# EAGLE library part LPC313* (library parts)
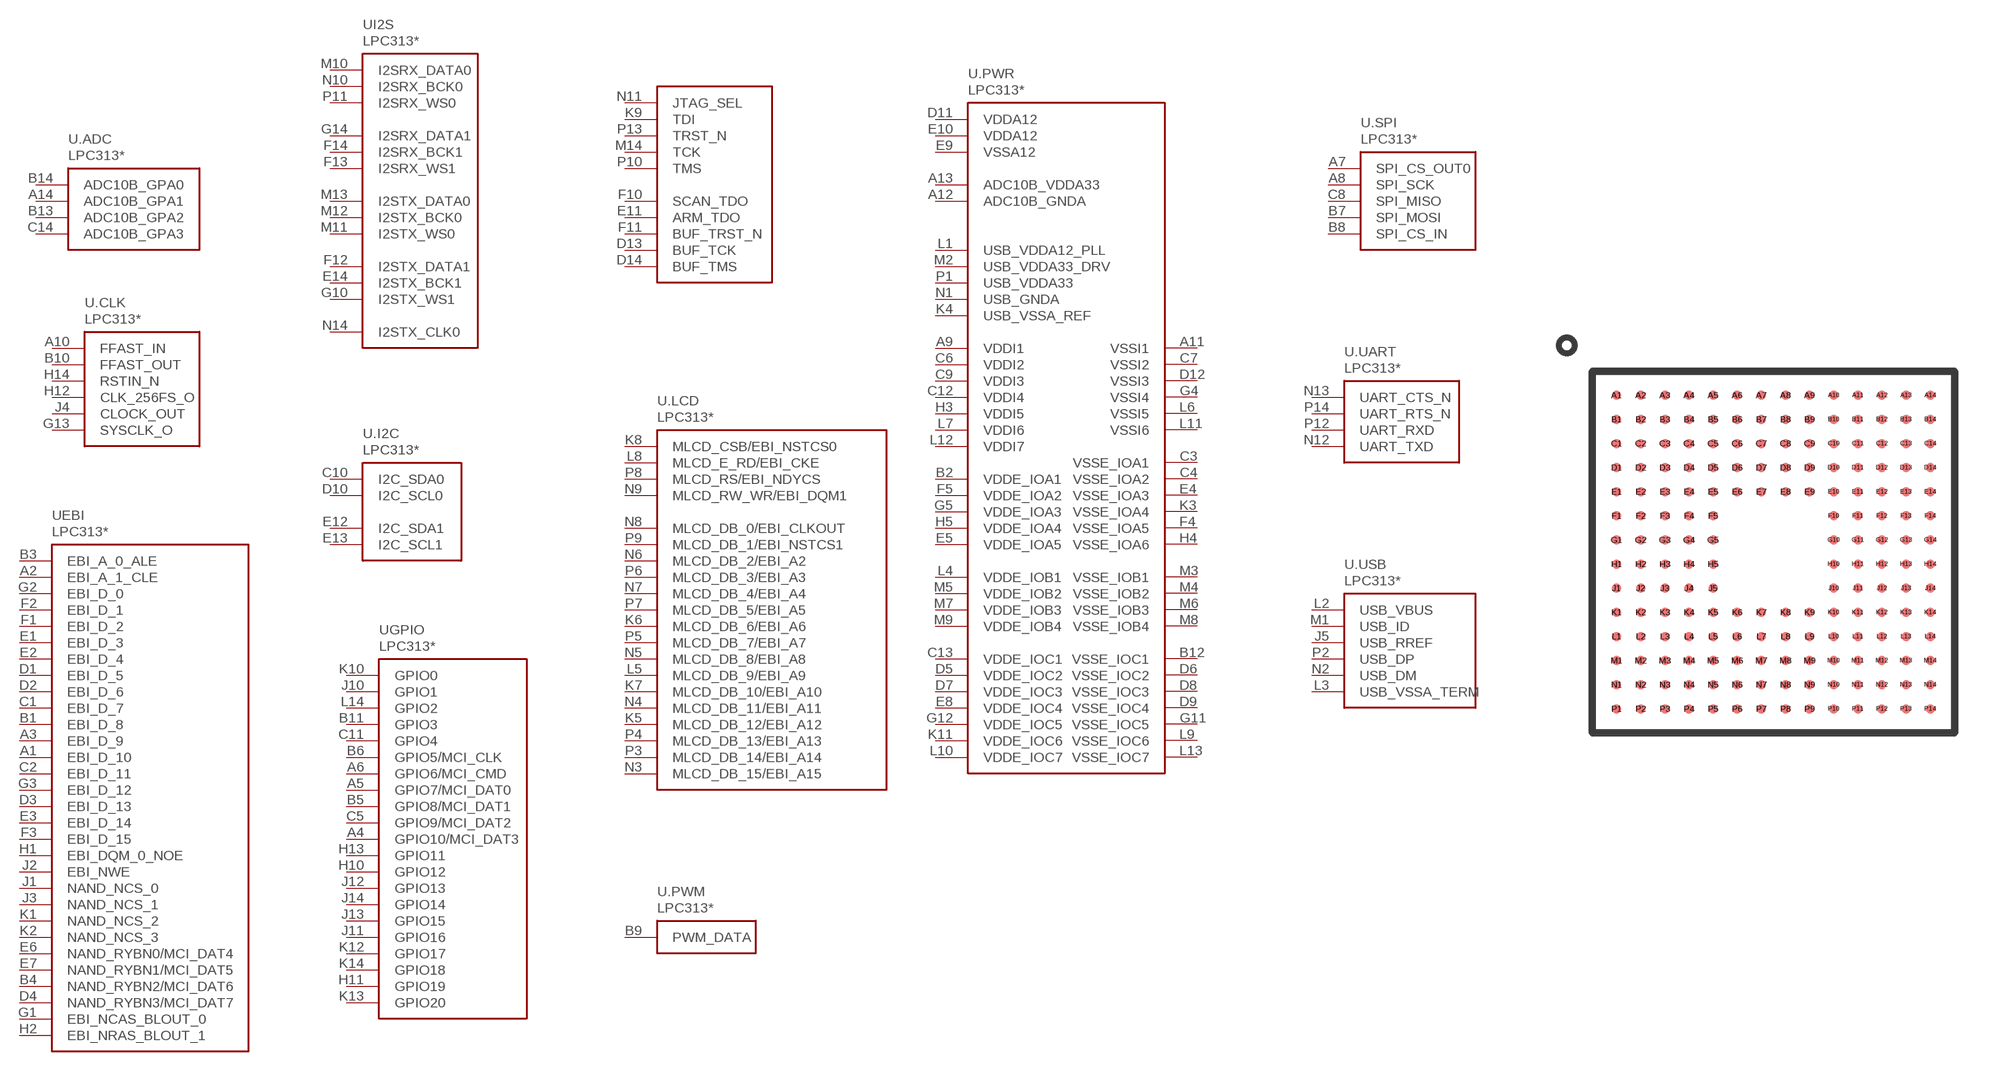
[diagram p0: symbol with the pads of SOT570-3; footprint SOT570-3]

Designator prefix U; gates .ADC=LPC313*-ADC .CLK=LPC313*-CLK EBI=LPC313*-EBI GPIO=LPC313*-GPIO .I2C=LPC313*-I2C I2S=LPC313*-I2S .JTAG=LPC313*-JTAG .LCD=LPC313*-LCD .PWM=LPC313*-PWM .PWR=LPC313*-PWR .SPI=LPC313*-SPI .UART=LPC313*-UART .USB=LPC313*-USB

## LPC3130, LPC3131  [SOT570-3]
A1  EBI:EBI_D_10
A2  EBI:EBI_A_1_CLE  out
A3  EBI:EBI_D_9
A4  GPIO:GPIO10/MCI_DAT3
A5  GPIO:GPIO7/MCI_DAT0
A6  GPIO:GPIO6/MCI_CMD
A7  .SPI:SPI_CS_OUT0  out
A8  .SPI:SPI_SCK
A9  .PWR:VDDI1  pwr
A10  .CLK:FFAST_IN  in
A11  .PWR:VSSI1  pwr
A12  .PWR:ADC10B_GNDA  pwr
A13  .PWR:ADC10B_VDDA33  pwr
A14  .ADC:ADC10B_GPA1  in
B1  EBI:EBI_D_8
B2  .PWR:VDDE_IOA1  pwr
B3  EBI:EBI_A_0_ALE  out
B4  EBI:NAND_RYBN2/MCI_DAT6  in
B5  GPIO:GPIO8/MCI_DAT1
B6  GPIO:GPIO5/MCI_CLK
B7  .SPI:SPI_MOSI
B8  .SPI:SPI_CS_IN  in
B9  .PWM:PWM_DATA
B10  .CLK:FFAST_OUT  out
B11  GPIO:GPIO3
B12  .PWR:VSSE_IOC1  pwr
B13  .ADC:ADC10B_GPA2  in
B14  .ADC:ADC10B_GPA0  in
C1  EBI:EBI_D_7
C2  EBI:EBI_D_11
C3  .PWR:VSSE_IOA1  pwr
C4  .PWR:VSSE_IOA2  pwr
C5  GPIO:GPIO9/MCI_DAT2
C6  .PWR:VDDI2  pwr
C7  .PWR:VSSI2  pwr
C8  .SPI:SPI_MISO
C9  .PWR:VDDI3  pwr
C10  .I2C:I2C_SDA0
C11  GPIO:GPIO4
C12  .PWR:VDDI4  pwr
C13  .PWR:VDDE_IOC1  pwr
C14  .ADC:ADC10B_GPA3  in
D1  EBI:EBI_D_5
D2  EBI:EBI_D_6
D3  EBI:EBI_D_13
D4  EBI:NAND_RYBN3/MCI_DAT7  in
D5  .PWR:VDDE_IOC2  pwr
D6  .PWR:VSSE_IOC2  pwr
D7  .PWR:VDDE_IOC3  pwr
D8  .PWR:VSSE_IOC3  pwr
D9  .PWR:VSSE_IOC4  pwr
D10  .I2C:I2C_SCL0
D11  .PWR:VDDA12  pwr
D12  .PWR:VSSI3  pwr
D13  .JTAG:BUF_TCK  out
D14  .JTAG:BUF_TMS  out
E1  EBI:EBI_D_3
E2  EBI:EBI_D_4
E3  EBI:EBI_D_14
E4  .PWR:VSSE_IOA3  pwr
E5  .PWR:VDDE_IOA5  pwr
E6  EBI:NAND_RYBN0/MCI_DAT4  in
E7  EBI:NAND_RYBN1/MCI_DAT5  in
E8  .PWR:VDDE_IOC4  pwr
E9  .PWR:VSSA12  pwr
E10  .PWR:VDDA12  pwr
E11  .JTAG:ARM_TDO  out
E12  .I2C:I2C_SDA1
E13  .I2C:I2C_SCL1
E14  I2S:I2STX_BCK1
F1  EBI:EBI_D_2
F2  EBI:EBI_D_1
F3  EBI:EBI_D_15
F4  .PWR:VSSE_IOA5  pwr
F5  .PWR:VDDE_IOA2  pwr
F10  .JTAG:SCAN_TDO  out
F11  .JTAG:BUF_TRST_N  out
F12  I2S:I2STX_DATA1
F13  I2S:I2SRX_WS1
F14  I2S:I2SRX_BCK1
G1  EBI:EBI_NCAS_BLOUT_0  out
G2  EBI:EBI_D_0
G3  EBI:EBI_D_12
G4  .PWR:VSSI4  pwr
G5  .PWR:VDDE_IOA3  pwr
G10  I2S:I2STX_WS1
G11  .PWR:VSSE_IOC5  pwr
G12  .PWR:VDDE_IOC5  pwr
G13  .CLK:SYSCLK_O  out
G14  I2S:I2SRX_DATA1
H1  EBI:EBI_DQM_0_NOE  out
H2  EBI:EBI_NRAS_BLOUT_1  out
H3  .PWR:VDDI5  pwr
H4  .PWR:VSSE_IOA6  pwr
H5  .PWR:VDDE_IOA4  pwr
H10  GPIO:GPIO12
H11  GPIO:GPIO19
H12  .CLK:CLK_256FS_O  out
H13  GPIO:GPIO11
H14  .CLK:RSTIN_N  in
J1  EBI:NAND_NCS_0  out
J2  EBI:EBI_NWE  out
J3  EBI:NAND_NCS_1  out
J4  .CLK:CLOCK_OUT  out
J5  .USB:USB_RREF  in
J10  GPIO:GPIO1
J11  GPIO:GPIO16
J12  GPIO:GPIO13
J13  GPIO:GPIO15
J14  GPIO:GPIO14
K1  EBI:NAND_NCS_2  out
K2  EBI:NAND_NCS_3  out
K3  .PWR:VSSE_IOA4  pwr
K4  .PWR:USB_VSSA_REF  pwr
K5  .LCD:MLCD_DB_12/EBI_A12
K6  .LCD:MLCD_DB_6/EBI_A6
K7  .LCD:MLCD_DB_10/EBI_A10
K8  .LCD:MLCD_CSB/EBI_NSTCS0  out
K9  .JTAG:TDI  in
K10  GPIO:GPIO0
K11  .PWR:VDDE_IOC6  pwr
K12  GPIO:GPIO17
K13  GPIO:GPIO20
K14  GPIO:GPIO18
L1  .PWR:USB_VDDA12_PLL  pwr
L2  .USB:USB_VBUS  in
L3  .USB:USB_VSSA_TERM  in
L4  .PWR:VDDE_IOB1  pwr
L5  .LCD:MLCD_DB_9/EBI_A9
L6  .PWR:VSSI5  pwr
L7  .PWR:VDDI6  pwr
L8  .LCD:MLCD_E_RD/EBI_CKE  out
L9  .PWR:VSSE_IOC6  pwr
L10  .PWR:VDDE_IOC7  pwr
L11  .PWR:VSSI6  pwr
L12  .PWR:VDDI7  pwr
L13  .PWR:VSSE_IOC7  pwr
L14  GPIO:GPIO2
M1  .USB:USB_ID  in
M2  .PWR:USB_VDDA33_DRV  pwr
M3  .PWR:VSSE_IOB1  pwr
M4  .PWR:VSSE_IOB2  pwr
M5  .PWR:VDDE_IOB2  pwr
M6  .PWR:VSSE_IOB3  pwr
M7  .PWR:VDDE_IOB3  pwr
M8  .PWR:VSSE_IOB4  pwr
M9  .PWR:VDDE_IOB4  pwr
M10  I2S:I2SRX_DATA0
M11  I2S:I2STX_WS0
M12  I2S:I2STX_BCK0
M13  I2S:I2STX_DATA0
M14  .JTAG:TCK  in
N1  .PWR:USB_GNDA  pwr
N2  .USB:USB_DM  in
N3  .LCD:MLCD_DB_15/EBI_A15
N4  .LCD:MLCD_DB_11/EBI_A11
N5  .LCD:MLCD_DB_8/EBI_A8
N6  .LCD:MLCD_DB_2/EBI_A2
N7  .LCD:MLCD_DB_4/EBI_A4
N8  .LCD:MLCD_DB_0/EBI_CLKOUT
N9  .LCD:MLCD_RW_WR/EBI_DQM1  out
N10  I2S:I2SRX_BCK0
N11  .JTAG:JTAG_SEL  in
N12  .UART:UART_TXD  out
N13  .UART:UART_CTS_N  in
N14  I2S:I2STX_CLK0
P1  .PWR:USB_VDDA33  pwr
P2  .USB:USB_DP  in
P3  .LCD:MLCD_DB_14/EBI_A14
P4  .LCD:MLCD_DB_13/EBI_A13
P5  .LCD:MLCD_DB_7/EBI_A7
P6  .LCD:MLCD_DB_3/EBI_A3
P7  .LCD:MLCD_DB_5/EBI_A5
P8  .LCD:MLCD_RS/EBI_NDYCS  out
P9  .LCD:MLCD_DB_1/EBI_NSTCS1
P10  .JTAG:TMS  in
P11  I2S:I2SRX_WS0
P12  .UART:UART_RXD  in
P13  .JTAG:TRST_N  in
P14  .UART:UART_RTS_N  out

## Footprint SOT570-3 (pad centres in mm)
smd 0.31 x 0.31: A1 -5.2,5.2; A2 -4.4,5.2; A3 -3.6,5.2; A4 -2.8,5.2; A5 -2,5.2; A6 -1.2,5.2; A7 -0.4,5.2; A8 0.4,5.2; A9 1.2,5.2; A10 2,5.2; A11 2.8,5.2; A12 3.6,5.2; A13 4.4,5.2; A14 5.2,5.2; B1 -5.2,4.4; B2 -4.4,4.4; B3 -3.6,4.4; B4 -2.8,4.4; B5 -2,4.4; B6 -1.2,4.4; B7 -0.4,4.4; B8 0.4,4.4; B9 1.2,4.4; B10 2,4.4; B11 2.8,4.4; B12 3.6,4.4; B13 4.4,4.4; B14 5.2,4.4; C1 -5.2,3.6; C2 -4.4,3.6; C3 -3.6,3.6; C4 -2.8,3.6; C5 -2,3.6; C6 -1.2,3.6; C7 -0.4,3.6; C8 0.4,3.6; C9 1.2,3.6; C10 2,3.6; C11 2.8,3.6; C12 3.6,3.6; C13 4.4,3.6; C14 5.2,3.6; D1 -5.2,2.8; D2 -4.4,2.8; D3 -3.6,2.8; D4 -2.8,2.8; D5 -2,2.8; D6 -1.2,2.8; D7 -0.4,2.8; D8 0.4,2.8; D9 1.2,2.8; D10 2,2.8; D11 2.8,2.8; D12 3.6,2.8; D13 4.4,2.8; D14 5.2,2.8; E1 -5.2,2; E2 -4.4,2; E3 -3.6,2; E4 -2.8,2; E5 -2,2; E6 -1.2,2; E7 -0.4,2; E8 0.4,2; E9 1.2,2; E10 2,2; E11 2.8,2; E12 3.6,2; E13 4.4,2; E14 5.2,2; F1 -5.2,1.2; F2 -4.4,1.2; F3 -3.6,1.2; F4 -2.8,1.2; F5 -2,1.2; F10 2,1.2; F11 2.8,1.2; F12 3.6,1.2; F13 4.4,1.2; F14 5.2,1.2; G1 -5.2,0.4; G2 -4.4,0.4; G3 -3.6,0.4; G4 -2.8,0.4; G5 -2,0.4; G10 2,0.4; G11 2.8,0.4; G12 3.6,0.4; G13 4.4,0.4; G14 5.2,0.4; H1 -5.2,-0.4; H2 -4.4,-0.4; H3 -3.6,-0.4; H4 -2.8,-0.4; H5 -2,-0.4; H10 2,-0.4; H11 2.8,-0.4; H12 3.6,-0.4; H13 4.4,-0.4; H14 5.2,-0.4; J1 -5.2,-1.2; J2 -4.4,-1.2; J3 -3.6,-1.2; J4 -2.8,-1.2; J5 -2,-1.2; J10 2,-1.2; J11 2.8,-1.2; J12 3.6,-1.2; J13 4.4,-1.2; J14 5.2,-1.2; K1 -5.2,-2; K2 -4.4,-2; K3 -3.6,-2; K4 -2.8,-2; K5 -2,-2; K6 -1.2,-2; K7 -0.4,-2; K8 0.4,-2; K9 1.2,-2; K10 2,-2; K11 2.8,-2; K12 3.6,-2; K13 4.4,-2; K14 5.2,-2; L1 -5.2,-2.8; L2 -4.4,-2.8; L3 -3.6,-2.8; L4 -2.8,-2.8; L5 -2,-2.8; L6 -1.2,-2.8; L7 -0.4,-2.8; L8 0.4,-2.8; L9 1.2,-2.8; L10 2,-2.8; L11 2.8,-2.8; L12 3.6,-2.8; L13 4.4,-2.8; L14 5.2,-2.8; M1 -5.2,-3.6; M2 -4.4,-3.6; M3 -3.6,-3.6; M4 -2.8,-3.6; M5 -2,-3.6; M6 -1.2,-3.6; M7 -0.4,-3.6; M8 0.4,-3.6; M9 1.2,-3.6; M10 2,-3.6; M11 2.8,-3.6; M12 3.6,-3.6; M13 4.4,-3.6; M14 5.2,-3.6; N1 -5.2,-4.4; N2 -4.4,-4.4; N3 -3.6,-4.4; N4 -2.8,-4.4; N5 -2,-4.4; N6 -1.2,-4.4; N7 -0.4,-4.4; N8 0.4,-4.4; N9 1.2,-4.4; N10 2,-4.4; N11 2.8,-4.4; N12 3.6,-4.4; N13 4.4,-4.4; N14 5.2,-4.4; P1 -5.2,-5.2; P2 -4.4,-5.2; P3 -3.6,-5.2; P4 -2.8,-5.2; P5 -2,-5.2; P6 -1.2,-5.2; P7 -0.4,-5.2; P8 0.4,-5.2; P9 1.2,-5.2; P10 2,-5.2; P11 2.8,-5.2; P12 3.6,-5.2; P13 4.4,-5.2; P14 5.2,-5.2